# Altium footprint library Pentagon.PcbLib: 21 footprints (part 1 of 2)
Each footprint in its own frame and in the unit in brackets; x right, y up, seen from the top. Pads: shape width x height; smd on the part's side, far side on the other; paste and mask are expansions set on the pad; w line width, h text height; cw(c..) or ccw(c..) is an arc to the next point about the centre after c.
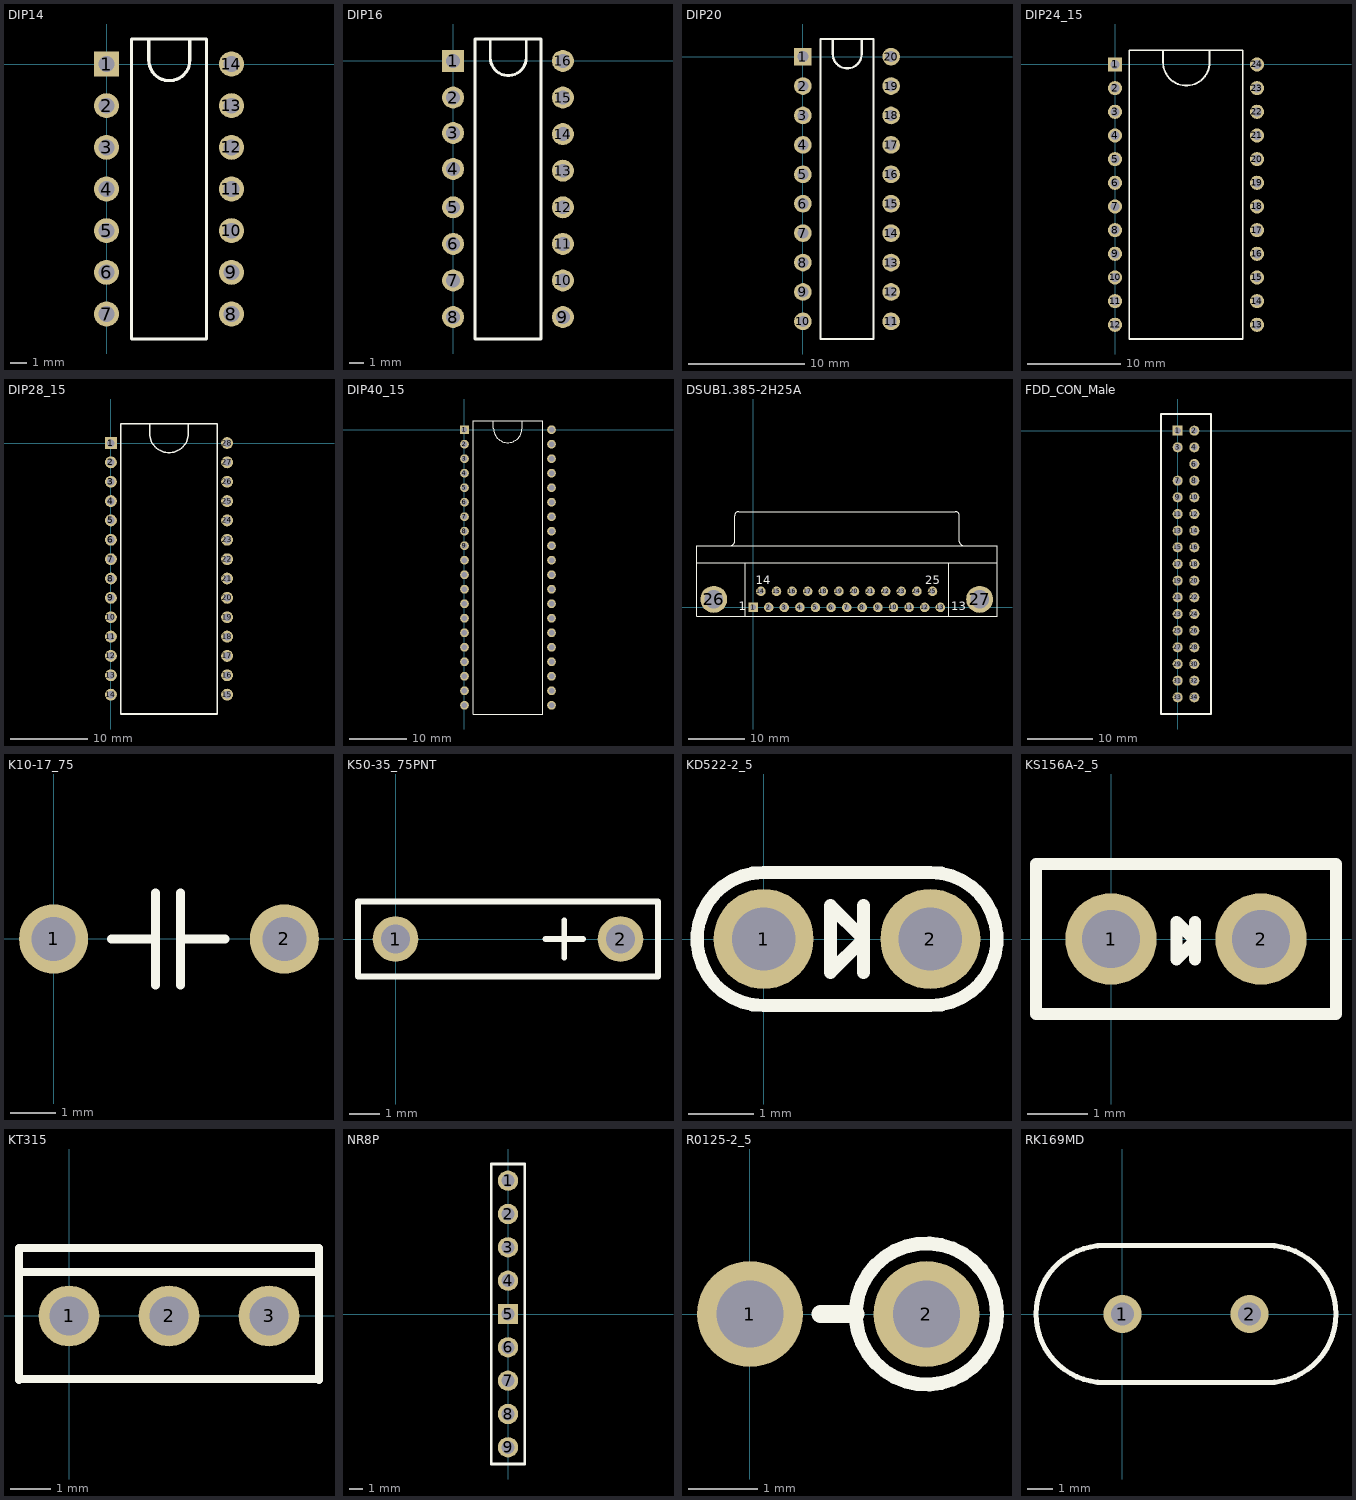
[diagram p0: the footprints below, top view; thin cyan lines are the x and y axes]

## DIP14 [mil]
pads (14):
  rect 60x60 hole 38: 1(0,0)
  round 60 hole 38: 2(0,-100) 3(0,-200) 4(0,-300) 5(0,-400) 6(0,-500) 7(0,-600) 8(300,-600) 9(300,-500) 10(300,-400) 11(300,-300) 12(300,-200) 13(300,-100) 14(300,0)
Top Overlay:
  lines w7.87: 101.57,58.43 101.57,9.21 ccw(c150.79,9.21) 200,9.21 200,58.43 ; 60,-660 60,60 240,60 240,-660 60,-660

## DIP16 [mil]
pads (16):
  rect 60x60 hole 38: 1(0,0)
  round 60 hole 38: 2(0,-100) 3(0,-196.85) 4(0,-295.28) 5(0,-400) 6(0,-500) 7(0,-600) 8(0,-700) 9(300,-700) 10(300,-600) 11(300,-500) 12(300,-400) 13(300,-300) 14(300,-200) 15(300,-100) 16(300,0)
Top Overlay:
  lines w7.87: 101.57,58.43 101.57,9.21 ccw(c150.79,9.21) 200,9.21 200,58.43 ; 60,-760 240,-760 240,60 60,60 60,-760

## DIP20 [mil]
pads (20):
  rect 60x60 hole 38: 1(0,0)
  round 60 hole 38: 2(0,-100) 3(0,-200) 4(0,-300) 5(0,-400) 6(0,-500) 7(0,-600) 8(0,-700) 9(0,-800) 10(0,-900) 11(300,-900) 12(300,-800) 13(300,-700) 14(300,-600) 15(300,-500) 16(300,-400) 17(300,-300) 18(300,-200) 19(300,-100) 20(300,0)
Top Overlay:
  lines w7.87: 101.57,58.43 101.57,9.21 ccw(c150.79,9.21) 200,9.21 200,58.43 ; 60,-960 60,60 240,60 240,-960 60,-960

## DIP24_15 [mil]
pads (24):
  rect 60x60 hole 38: 1(0,0)
  round 60 hole 38: 2(0,-100) 3(0,-200) 4(0,-300) 5(0,-400) 6(0,-500) 7(0,-600) 8(0,-700) 9(0,-800) 10(0,-900) 11(0,-1000) 12(0,-1100) 13(600,-1100) 14(600,-1000) 15(600,-900) 16(600,-800) 17(600,-700) 18(600,-600) 19(600,-500) 20(600,-400) 21(600,-300) 22(600,-200) 23(600,-100) 24(600,0)
Top Overlay:
  lines w7.87: 203.15,58.43 203.15,9.21 ccw(c301.57,9.21) 400,9.21 400,58.43 ; 60,-1160 540,-1160 540,60 60,60 60,-1160

## DIP28_15 [mil]
pads (28):
  rect 60x60 hole 38: 1(0,0)
  round 60 hole 38: 2(0,-98.43) 3(0,-196.85) 4(0,-295.28) 5(0,-393.7) 6(0,-492.13) 7(0,-590.55) 8(0,-688.98) 9(0,-787.4) 10(0,-885.83) 11(0,-984.25) 12(0,-1082.68) 13(0,-1181.1) 14(0,-1279.53) 15(590.55,-1279.53) 16(590.55,-1181.1) 17(590.55,-1082.68) 18(590.55,-984.25) 19(590.55,-885.83) 20(590.55,-787.4) 21(590.55,-688.98) 22(590.55,-590.55) 23(590.55,-492.13) 24(590.55,-393.7) 25(590.55,-295.28) 26(590.55,-196.85) 27(590.55,-98.43) 28(590.55,0)
Top Overlay:
  lines w7.87: 196.85,98.43 196.85,49.21 ccw(c295.28,49.21) 393.7,49.21 393.7,98.43 ; 49.21,-1377.95 49.21,98.43 541.34,98.43 541.34,-1377.95 49.21,-1377.95

## DIP40_15 [mil]
pads (40):
  rect 60x60 hole 38: 1(0,0)
  round 60 hole 38: 2(0,-100) 3(0,-200) 4(0,-300) 5(0,-400) 6(0,-500) 7(0,-600) 8(0,-700) 9(0,-800) 10(0,-900) 11(0,-1000) 12(0,-1100) 13(0,-1200) 14(0,-1300) 15(0,-1400) 16(0,-1500) 17(0,-1600) 18(0,-1700) 19(0,-1800) 20(0,-1900) 21(600,-1900) 22(600,-1800) 23(600,-1700) 24(600,-1600) 25(600,-1500) 26(600,-1400) 27(600,-1300) 28(600,-1200) 29(600,-1100) 30(600,-1000) 31(600,-900) 32(600,-800) 33(600,-700) 34(600,-600) 35(600,-500) 36(600,-400) 37(600,-300) 38(600,-200) 39(600,-100) 40(600,0)
Top Overlay:
  lines w7.87: 200,58.43 200,9.21 ccw(c298.43,9.21) 396.85,9.21 396.85,58.43 ; 60,-1960 60,60 540,60 540,-1960 60,-1960

## DSUB1.385-2H25A [mm] "Connector; D Subminiature; 25 Position; Right Angle; Pitch 1.385 mm"
height 12.93
pads (27):
  rect 1.69x1.69 hole 0.965: 1(0,0)
  round 1.69 hole 0.965: 2(2.761,0) 3(5.522,0) 4(8.283,0) 5(11.044,0) 6(13.805,0) 7(16.566,0) 8(19.327,0) 9(22.088,0) 10(24.849,0) 11(27.61,0) 12(30.371,0) 13(33.132,0) 14(1.381,2.84) 15(4.142,2.84) 16(6.903,2.84) 17(9.664,2.84) 18(12.424,2.84) 19(15.185,2.84) 20(17.946,2.84) 21(20.707,2.84) 22(23.469,2.84) 23(26.23,2.84) 24(28.991,2.84) 25(31.752,2.84)
  round 4.76 hole 3.26: 26(-6.96,1.42) 27(40.092,1.42)
Top Overlay:
  lines w0.2: -9.93,7.92 43.17,7.92 ; -3.975,10.925 ccw(c-3.975,11.62) -3.28,11.62 -3.28,16.22 ; -3.275,16.225 cw(c-2.58,16.225) -2.58,16.92 35.82,16.92 cw(c35.82,16.225) 36.515,16.225 ; -1.38,-1.58 -1.38,7.92 ; 34.62,-1.58 34.62,7.92 ; 36.52,16.22 36.52,11.62 ccw(c37.215,11.62) 37.215,10.925 ; -9.93,-1.58 43.17,-1.58 43.17,10.92 -9.93,10.92 -9.93,-1.58
  text "1" at -2.54,-0.508 h1.5
  text "13" at 35.052,-0.508 h1.5
  text "14" at 0.508,4.064 h1.5
  text "25" at 30.48,4.064 h1.5

## FDD_CON_Male [mil]
pads (33):
  rect 60x60 hole 37.99: 1(0,0)
  round 60 hole 37.99: 2(100,0) 3(0,-100) 4(100,-100) 6(100,-200) 7(0,-300) 8(100,-300) 9(0,-400) 10(100,-400) 11(0,-500) 12(100,-500) 13(0,-600) 14(100,-600) 15(0,-700) 16(100,-700) 17(0,-800) 18(100,-800) 19(0,-900) 20(100,-900) 21(0,-1000) 22(100,-1000) 23(0,-1100) 24(100,-1100) 25(0,-1200) 26(100,-1200) 27(0,-1300) 28(100,-1300) 29(0,-1400) 30(100,-1400) 31(0,-1500) 32(100,-1500) 33(0,-1600) 34(100,-1600)
Top Overlay:
  lines w10: -100,-1700 -100,100 200,100 200,-1700 -100,-1700

## K10-17_75 [mil]
pads (2):
  round 60 hole 38: 1(0,0) 2(200,0)
Top Overlay:
  lines w7.87: 50,0 88.43,0 ; 88.43,-40 88.43,40 ; 110,-40 110,40 ; 110,0 148.43,0

## K50-35_75PNT [mil]
pads (2):
  round 60 hole 38: 1(0,0) 2(295.28,0)
Top Overlay:
  lines w7.87: 196.85,0 246.06,0 ; 221.46,-24.61 221.46,24.61 ; -49.21,-49.21 344.49,-49.21 344.49,49.21 -49.21,49.21 -49.21,-49.21

## KD522-2_5 [mil]
pads (2):
  round 60 hole 38: 1(0,0) 2(100,0)
Top Overlay:
  lines w7.87: 60,-20 60,20 ; 0,-40 cw(c0,0) 0,40 100,40 cw(c100,0) 100,-40 0,-40 ; 40,-20 60,0 40,20 40,-20

## KS156A-2_5 [mil]
pads (2):
  round 60 hole 38: 1(0,0) 2(98.43,0)
Top Overlay:
  lines w7.87: 55.28,-13.35 55.28,11.3 ; -49.21,-49.21 147.64,-49.21 147.64,49.21 -49.21,49.21 -49.21,-49.21 ; 42.95,-13.35 55.28,-1.02 42.95,11.3 42.95,-13.35

## KT315 [mil]
pads (3):
  round 60 hole 38: 1(0,0) 2(98.43,0) 3(196.85,0)
Top Overlay:
  lines w7.87: -49.21,-62.99 -49.21,66.93 246.06,66.93 246.06,-62.99 ; -49.21,-62.01 246.06,-62.01 ; -49.21,43.31 246.06,43.31

## NR8P [mil]
pads (9):
  round 60 hole 38: 1(0,393.7) 2(0,295.28) 3(0,196.85) 4(0,98.43) 6(0,-98.43) 7(0,-196.85) 8(0,-295.28) 9(0,-393.7)
  rect 60x60 hole 38: 5(0,0)
Top Overlay:
  lines w7.87: -49.21,-442.91 -49.21,-49.21 -49.21,442.91 0,442.91 49.21,442.91 49.21,-442.91 -49.21,-442.91

## R0125-2_5 [mil]
pads (2):
  round 60 hole 38: 1(0,0) 2(100,0)
Top Overlay:
  circle w7.87: c100,0 r40
  lines w10: 40,0 60,0

## RK169MD [mm]
pads (2):
  round 1.5 hole 0.9: 1(0,0) 2(5,0)
Top Overlay:
  lines w0.2: -0.7,-2.7 cw(c-0.7,0) -0.7,2.7 5.7,2.7 cw(c5.7,0) 5.7,-2.7 -0.7,-2.7